# Altium footprint library components.PcbLib: 24 footprints (part 2 of 2)
Each footprint in its own frame and in the unit in brackets; x right, y up, seen from the top. Pads: shape width x height; smd on the part's side, far side on the other; paste and mask are expansions set on the pad; w line width, h text height; cw(c..) or ccw(c..) is an arc to the next point about the centre after c.
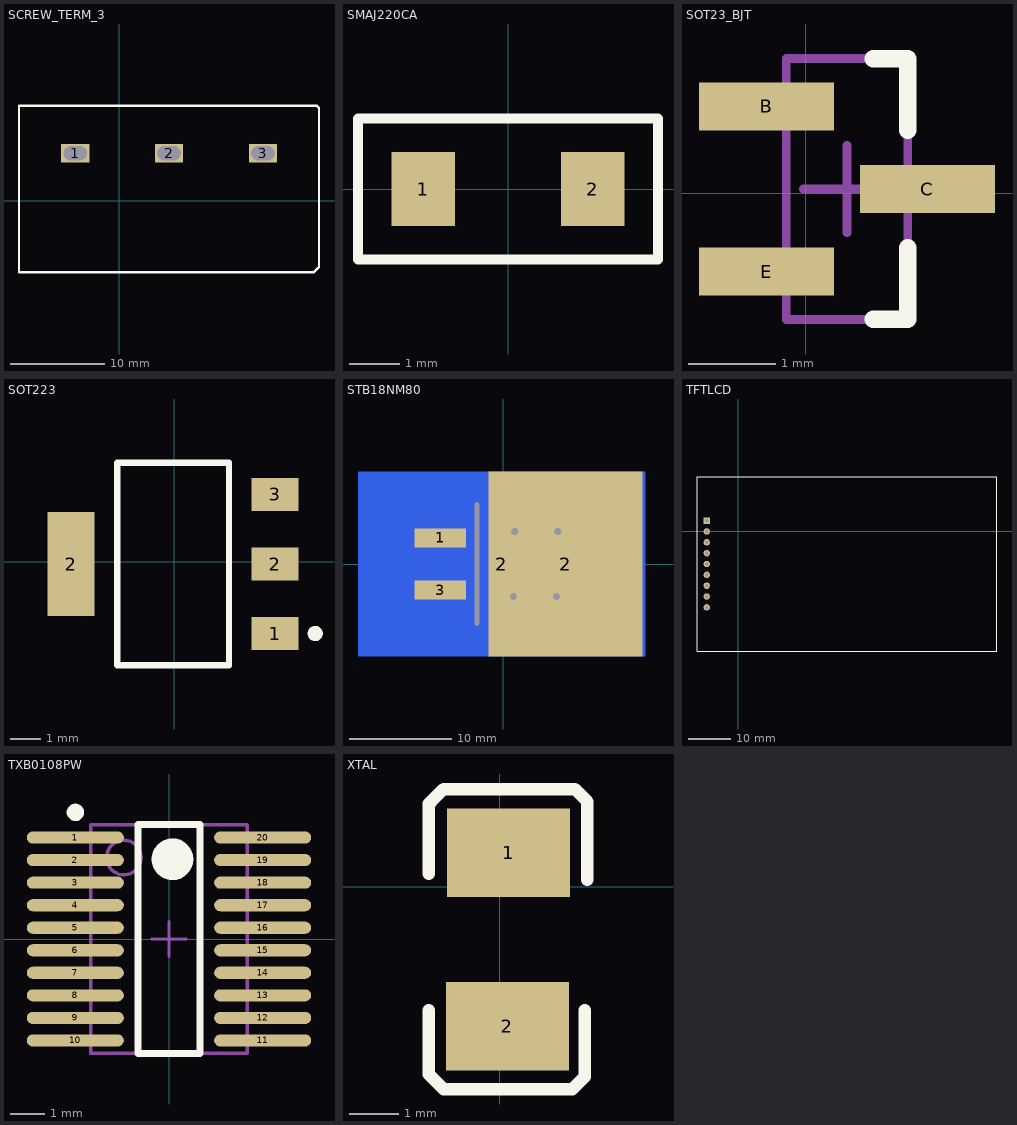
[diagram p1: the footprints below, top view; thin cyan lines are the x and y axes]

## SCREW_TERM_3 [mm]
pads (3):
  rect 3x2 hole 1.5 slot 2.5 at 0 deg: 1(-4.699,5.08) 2(5.301,5.08) 3(15.301,5.08)
Top Overlay:
  lines w0.254: -10.697,-7.62 -10.697,10.16 21.02,10.16 21.274,9.906 21.274,-7.047 20.701,-7.62 -10.697,-7.62

## SMAJ220CA [mm]
pads (2):
  rect 1.27x1.47 smd: 1(-1.685,0) 2(1.685,0)
Top Overlay:
  lines w0.2: -2.985,-1.4 -2.985,0 -2.985,1.4 2.985,1.4 2.985,-1.4 -2.985,-1.4

## SOT23_BJT [mm]
pads (3):
  rect 1.55x0.55 smd: B(-0.449,0.996) C(1.401,0.046) E(-0.449,-0.904)
Top Overlay:
  lines w0.2: 0.776,-1.454 1.176,-1.454 1.176,-0.629 ; 0.776,1.546 1.176,1.546 1.176,0.721
Mechanical 13:
  lines w0.1: -0.224,-1.454 1.176,-1.454 1.176,1.546 -0.224,1.546 -0.224,-1.454
Mechanical 15:
  lines w0.1: -0.024,0.046 0.976,0.046 ; 0.476,-0.454 0.476,0.546
3D body: height 1.1, standoff 0.05, extent -0.224,-1.454 1.176,1.546

## SOT223 [mm]
pads (4):
  rect 1.55x1.1 smd: 1(3.337,-2.377) 2(3.337,-0.077) 3(3.337,2.223)
  rect 1.55x3.45 smd: 2(-3.413,-0.077)
Top Overlay:
  circle w0.25: c4.662,-2.377 r0.125
  lines w0.2: -1.888,-3.427 1.812,-3.427 1.812,3.273 -1.888,3.273 -1.888,-3.427
3D body: height 4, standoff 0, extent -1.817,-3.355 1.783,3.245

## STB18NM80 [mm] "D2-PAK, 3-Pads, Body 9.4x10.4mm (max), IPC Low Density"
height 4.4
pads (5):
  rect 5x1.85 smd: 1(-6.1,2.55) 3(-6.1,-2.55)
  round 0 hole 0.406 slot 12 at 90 deg: 2(-2.54,0)
  rect 28x18 smd far side: 2(-0.127,0)
  rect 15x18 smd: 2(6.096,0)
via 1.143,3.175 diameter 1.27 hole 0.711
via 5.334,3.175 diameter 1.27 hole 0.711
via 5.207,-3.175 diameter 1.27 hole 0.711
via 1.016,-3.175 diameter 1.27 hole 0.711
Top Overlay:
  circle w0.25: c-6.1,3.765 r0.125
  lines w0.1: -9.05,-6.604 -9.05,6.604 9.05,6.604 9.05,-6.604 -9.05,-6.604
Mechanical 13:
  lines w0.1: 6.9,-5.2 6.9,5.2
Mechanical 15:
  lines w0.1: -0.5,0 0.5,0 ; 0,-0.5 0,0.5

## TFTLCD [mm]
pads (9):
  rect 1.5x1.5 hole 0.9: 1(-7.366,2.54)
  round 1.5 hole 0.9: 2(-7.366,0) 3(-7.366,-2.54) 4(-7.366,-5.08) 5(-7.366,-7.62) 6(-7.366,-10.16) 7(-7.366,-12.7) 8(-7.366,-15.24) 9(-7.366,-17.78)
Top Overlay:
  lines w0.254: -9.652,-28.067 60.579,-28.067 60.579,12.827 -9.652,12.827 -9.652,-28.067

## TXB0108PW [mm] "TSOP, 20-Leads, Body 6.6x4.5mm (max), Pitch 0.65mm, IPC Low Density"
height 1.2
pads (20):
  oval 2.8x0.35 smd: 1(-2.7,2.925) 2(-2.7,2.275) 3(-2.7,1.625) 4(-2.7,0.975) 5(-2.7,0.325) 6(-2.7,-0.325) 7(-2.7,-0.975) 8(-2.7,-1.625) 9(-2.7,-2.275) 10(-2.7,-2.925) 11(2.7,-2.925) 12(2.7,-2.275) 13(2.7,-1.625) 14(2.7,-0.975) 15(2.7,-0.325) 16(2.7,0.325) 17(2.7,0.975) 18(2.7,1.625) 19(2.7,2.275) 20(2.7,2.925)
Top Overlay:
  circle w0.25: c-2.7,3.65 r0.125
  circle w0.6: c0.1,2.3 r0.3
  lines w0.2: -0.9,-3.3 -0.9,3.3 0.9,3.3 0.9,-3.3 -0.9,-3.3
Mechanical 13:
  circle w0.1: c-1.3,2.35 r0.5
  lines w0.1: -2.25,-3.3 -2.25,3.3 2.25,3.3 2.25,-3.3 -2.25,-3.3
Mechanical 15:
  lines w0.1: -0.5,0 0.5,0 ; 0,-0.5 0,0.5
3D body: height 1.2, standoff 0.25, extent -2.25,-3.3 2.25,3.3

## XTAL [mm]
pads (2):
  rect 2.5x1.8 smd: 1(0.179,0.691) 2(0.154,-2.834)
Top Overlay:
  lines w0.254: -1.446,-2.509 -1.446,-3.807 -1.143,-4.11 1.475,-4.11 1.729,-3.856 1.729,-2.509 ; -1.446,0.266 -1.446,1.683 -1.397,1.732 -1.143,1.986 1.524,1.986 1.778,1.732 1.778,0.141
3D body: height 2.54, standoff 0, extent -0.889,-3.348 1.397,1.351